# EAGLE library part A075-660M2 (library saw-filters-narrowband)
A075-660M2 Параметр Ед. изм. Мин. значение Тип. значение Макс. значение Центральная частота МГц 659.25 660 660.75 Минимальное вносимое затухание дБ 1.8 2 2.3 Полоса среза по уровню -2 дБ МГц - 10 10.5 Полоса среза по уровню -25 дБ МГц 25.5 26 26.5 Неравномерность АЧХ дБ - 0.5 1 Групповое время задержки нс - - - Гарантированное затухание дБ - 50 - Температурный диапазон °C -55 22 +85 Материал подложки - - Танталат лития 36 -
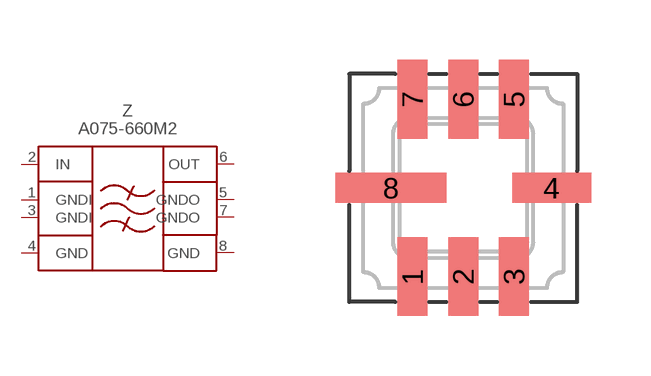
[diagram p166: symbol with the pads of QCC8; footprint QCC8]

Designator prefix Z

## A075-660M2  [QCC8]
1  GNDI  pas
2  IN  pas
3  GNDI  pas
4  GND  pwr
5  GNDO  pas
6  OUT  pas
7  GNDO  pas
8  GND  pwr

## Footprint QCC8 (pad centres in mm)
smd 0.75 x 1.97: 1 -1.27,-2.215; 2 0,-2.215; 3 1.27,-2.215; 5 1.27,2.215; 6 0,2.215; 7 -1.27,2.215
smd 1.97 x 0.75: 4 2.215,0
smd 2.78 x 0.75: 8 -1.81,0